# Altium footprint library SMF533KFT.PcbLib: 1 footprints
Each footprint in its own frame and in the unit in brackets; x right, y up, seen from the top. Pads: shape width x height; smd on the part's side, far side on the other; paste and mask are expansions set on the pad; w line width, h text height; cw(c..) or ccw(c..) is an arc to the next point about the centre after c.
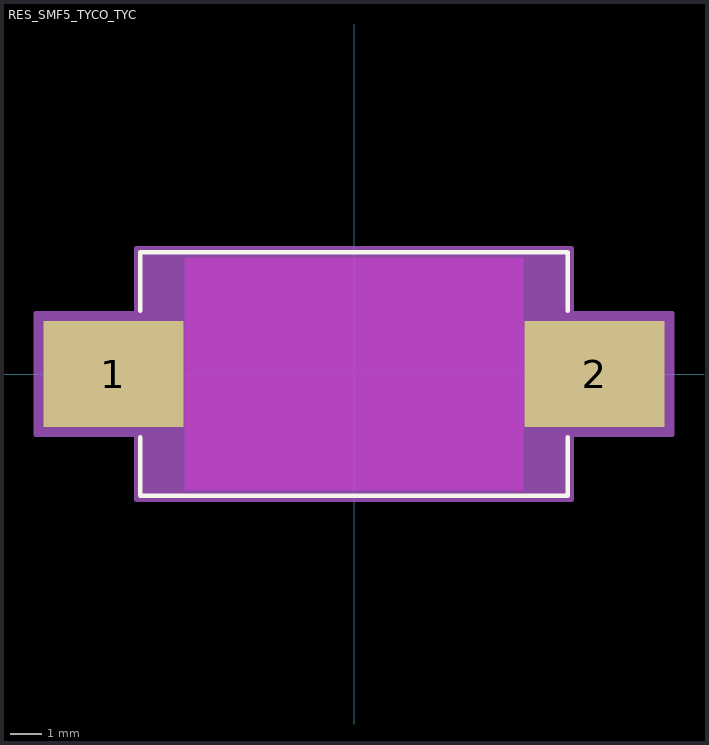
[diagram p0: the footprint, top view; thin cyan lines are the x and y axes]

## RES_SMF5_TYCO_TYC [mil]
pads (2):
  rect 177x134 smd paste+0 mask+0: 1(-305,0) 2(305,0)
Top Layer keep-out:
  region: -214.5,-147.5 -214.5,147.5 214.5,147.5 214.5,-147.5
Top Overlay:
  lines w6: -271,-80.1 -271,-154.5 271,-154.5 271,-80.1 ; -271,80.1 -271,154.5 271,154.5 271,80.1
Mechanical 13:
  lines w1: -266,-149.5 266,-149.5 266,149.5 -266,149.5 -266,-149.5
Mechanical 15:
  region: -276,-77 -403.5,-77 -403.5,77 -276,77 -276,159.5 276,159.5 276,77 403.5,77 403.5,-77 276,-77 276,-159.5 -276,-159.5
  lines w6: -403.5,-77 -403.5,77 -276,77 -276,159.5 276,159.5 276,77 403.5,77 403.5,-77 276,-77 276,-159.5 -276,-159.5 -276,-77 -403.5,-77
3D body "RES_SMF5_TYCO_TYC.step": height 267.99, standoff 0, extent -265.98,-149.49 265.98,149.49